# Altium footprint library 油烟采集模块.PcbLib: 18 footprints (part 1 of 2)
Each footprint in its own frame and in the unit in brackets; x right, y up, seen from the top. Pads: shape width x height; smd on the part's side, far side on the other; paste and mask are expansions set on the pad; w line width, h text height; cw(c..) or ccw(c..) is an arc to the next point about the centre after c.
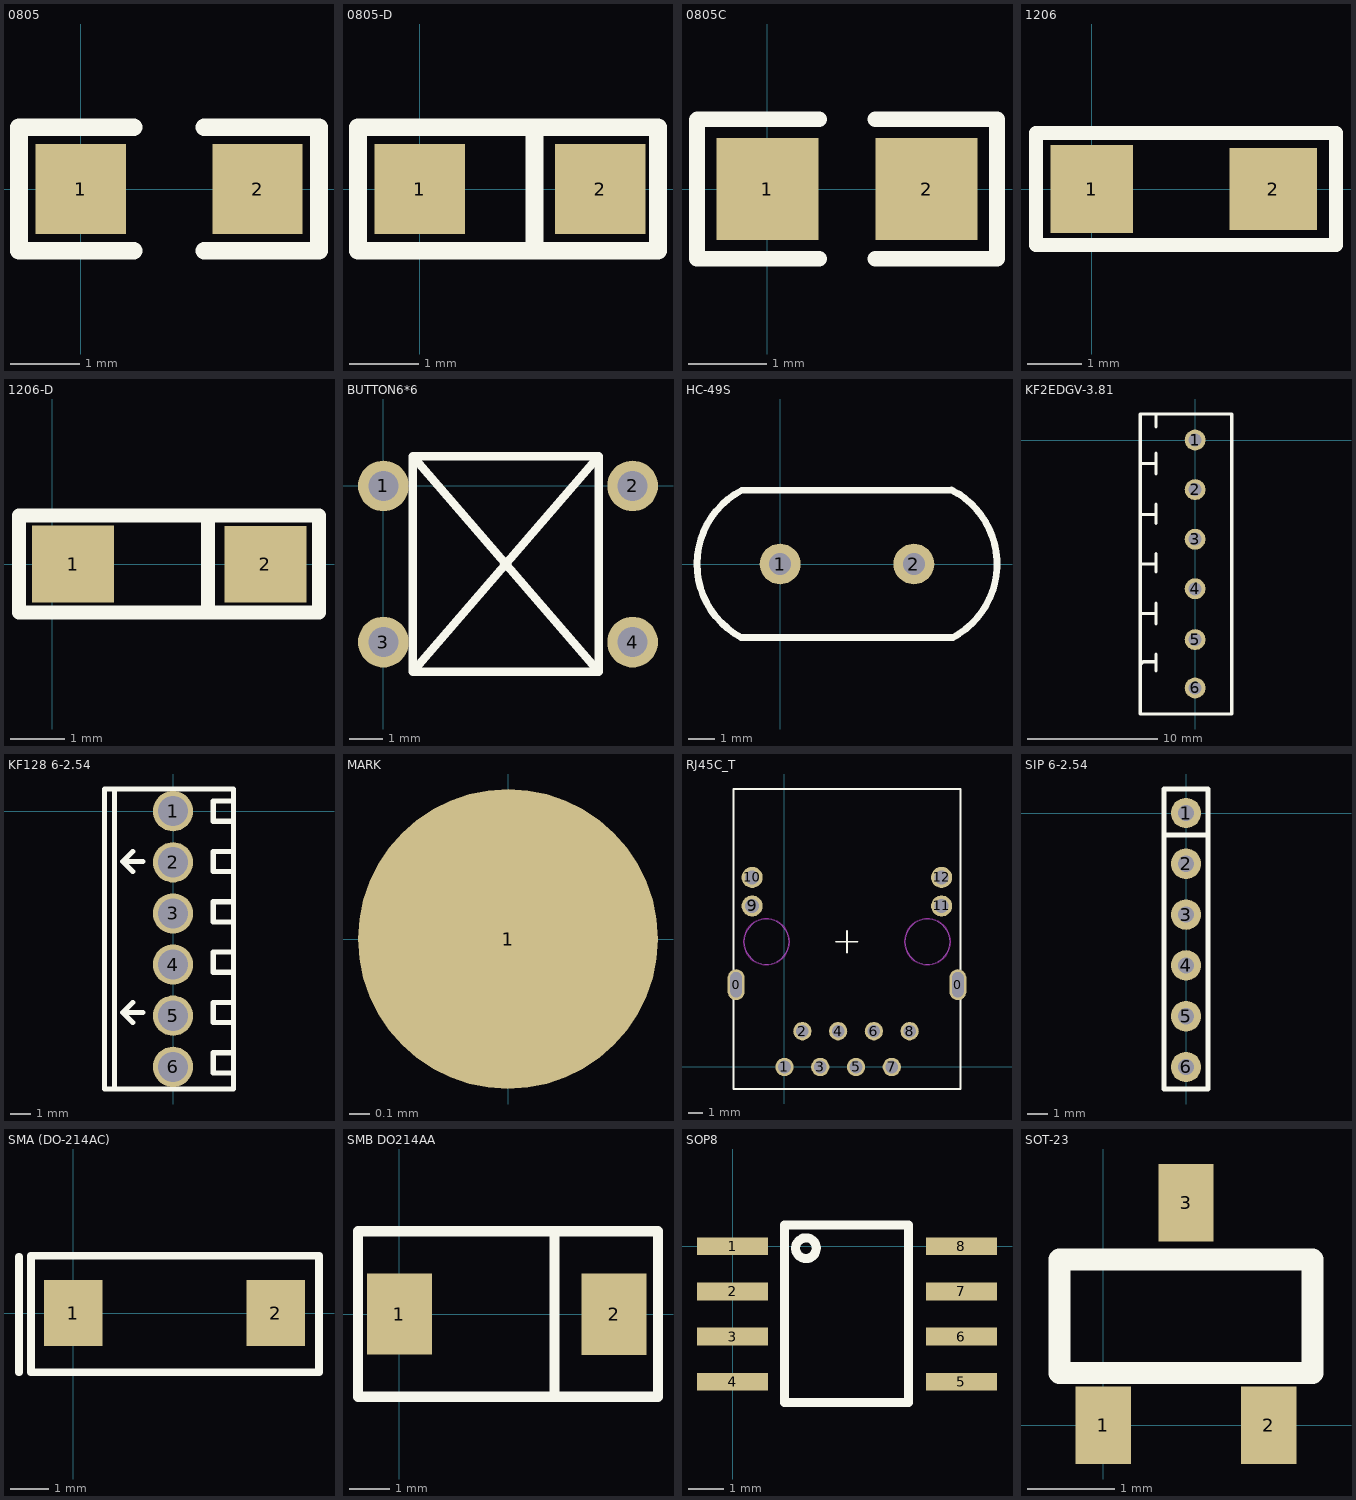
[diagram p0: the footprints below, top view; thin cyan lines are the x and y axes]

## 0805 [mm]
pads (2):
  rect 1.3x1.3 smd: 1(0,0) 2(2.545,0)
Top Overlay:
  lines w0.254: 0.762,-0.889 -0.889,-0.889 -0.889,0.889 0.762,0.889 ; 1.778,-0.889 3.429,-0.889 3.429,0.889 1.778,0.889

## 0805-D [mm]
pads (2):
  rect 1.3x1.3 smd: 1(0,0) 2(2.596,0)
Top Overlay:
  lines w0.254: 1.651,-0.889 1.651,0.889 ; -0.889,-0.889 -0.889,0.889 3.429,0.889 3.429,-0.889 -0.889,-0.889

## 0805C [mm] "0805无极性电容"
pads (2):
  rect 1.3x1.3 smd: 1(0,0) 2(2.027,0)
Top Overlay:
  lines w0.2: 0.66,-0.889 -0.896,-0.889 -0.896,0 -0.896,0.882 -0.889,0.889 0.66,0.889 ; 1.372,-0.889 2.923,-0.889 2.923,0.887 2.921,0.889 1.372,0.889

## 1206 [mm]
pads (2):
  rect 1.5x1.6 smd: 1(0,0)
  rect 1.6x1.5 smd: 2(3.302,0)
Top Overlay:
  lines w0.254: -1.016,-1.016 -1.016,1.016 4.445,1.016 4.445,-1.016 -1.016,-1.016

## 1206-D [mm]
pads (2):
  rect 1.5x1.4 smd: 1(0.381,0) 2(3.896,-0.001)
Top Overlay:
  lines w0.254: 2.845,-0.889 2.845,0.889 ; -0.61,-0.889 -0.61,0.889 4.877,0.889 4.877,-0.889 -0.61,-0.889

## BUTTON6*6 [mm]
pads (4):
  round 1.524 hole 0.9: 1(0,0) 2(7.5,0) 3(0,-4.7) 4(7.5,-4.7)
Top Overlay:
  lines w0.254: 0.889,0 0.889,0.889 ; 0.889,-5.588 6.477,0.889 ; 0.889,-5.588 6.477,-5.588 ; 0.889,-5.588 0.889,0.889 ; 0.889,0.889 6.477,-5.588 ; 0.889,0.889 6.477,0.889 ; 6.477,-5.588 6.477,0.889

## HC-49S [mil]
pads (2):
  round 60 hole 32: 1(0,0) 2(196.85,0)
Top Overlay:
  lines w10: 264.66,102.36 266.47,100.55 ; -57.34,-108.03 cw(c0,0) -56.42,108.51 251.71,108.51 252.24,109.04 cw(c196.85,0) 253.15,-108.57 252.6,-108.03 -57.34,-108.03

## KF2EDGV-3.81 [mm]
pads (6):
  round 1.6 hole 1: 1(0,0) 2(0,-3.8) 3(0,-7.6) 4(0,-11.4) 5(0,-15.3) 6(0,-19)
Top Overlay:
  lines w0.254: -4.2,-17.1 -4.1,-17.1 -4,-17 -3,-17 ; -4.2,-13.4 -4.1,-13.3 -3,-13.3 ; -4.2,-5.8 -4.1,-5.7 -3,-5.7 ; -4.2,-1.8 -3.1,-1.8 ; -4.1,-9.5 -3,-9.5 ; -3,-17.7 -3,-16.4 ; -3,-14.1 -3,-12.5 ; -3,-10.1 -3,-8.7 ; -3,-6.4 -3,-4.9 ; -3,-2.6 -3,-1 ; -3,1 -3,1.9 ; 0,-21 2.8,-21 2.8,2 0,2 -4.2,2 -4.2,-21 0.1,-21

## KF128 6-2.54 [mm]
pads (6):
  round 2 hole 1.5: 1(0,0) 2(0,-2.54) 3(0,-5.08) 4(0,-7.62) 5(0,-10.16) 6(0,-12.7)
Top Overlay:
  lines w0.254: -3.4,-0.4 -3.4,1.1 0.8,1.1 ; -3.4,0 -3.4,-13.8 0.1,-13.8 ; -2.9,-13.8 -2.9,1.1 ; -2,-10.5 -2.5,-10 ; -2,-3 -2.5,-2.5 ; -1.5,-10 -2.5,-10 ; -1.5,-2.5 -2.4,-2.5 -2.5,-2.5 ; 0,-13.8 3,-13.8 3,0 ; 0,1.1 3,1.1 3,-0.1 ; 2.9,0.5 2.1,0.5 2,0.5 2,-0.5 3,-0.5 ; 3,-13 2,-13 2,-12 3,-12 ; 3,-10.5 2,-10.5 2,-9.5 3,-9.5 ; 3,-8 2,-8 2,-7 3,-7 ; 3,-5.5 2,-5.5 2,-4.5 3,-4.5 ; 3,-3 2,-3 2,-2 3,-2 ; -2.5,-10 -2,-9.5 ; -2.5,-10 -2,-9.5 ; -2.5,-10 -2.5,-10 ; -2.5,-2.5 -2,-2 -2.5,-2.5 ; -2,-9.5 -2,-9.5

## MARK [mm] "mark点"
pads (1):
  round 1.5 smd mask+1: 1(0,0)

## RJ45C_T [mm]
pads (14):
  oval 1.2x2.2 hole 0.8 slot 1.8 at 90 deg: 0(-3.434,5.842) 0(12.316,5.842)
  round 1.3 hole 0.9: 1(0,0) 2(1.27,2.54) 3(2.54,0) 4(3.81,2.54) 5(5.08,0) 6(6.35,2.54) 7(7.62,0) 8(8.89,2.54)
  round 1.5 hole 1: 9(-2.291,11.43) 10(-2.291,13.46) 11(11.159,11.43) 12(11.159,13.46)
Top Overlay:
  lines w0.127: 3.658,8.89 5.207,8.89 ; 4.44,8.103 4.44,9.677 ; -3.608,-1.564 -3.608,19.736 12.492,19.736 12.492,-1.564 -3.608,-1.564
Keep-Out Layer:
  circle w0.076: c10.155,8.89 r1.65
  circle w0.076: c-1.275,8.89 r1.65
Mechanical 1:
  circle w0.076: c10.155,8.89 r1.6
  circle w0.076: c-1.275,8.89 r1.6

## SIP 6-2.54 [mil]
pads (6):
  round 60 hole 32: 1(0,0) 2(0,-100) 3(0,-200) 4(0,-300) 5(0,-400) 6(0,-500)
Top Overlay:
  lines w10: -43.31,-43.31 43.31,-43.31 ; 0,-543.31 -43.31,-543.31 ; -43.31,-543.31 -43.31,47.24 0,47.24 43.31,47.24 43.31,-543.31 -43.31,-543.31

## SMA (DO-214AC) [mm]
pads (2):
  rect 1.5x1.7 smd: 1(0,0) 2(5.213,0)
Top Overlay:
  lines w0.2: -1.397,-1.524 -1.397,1.448 ; -1.089,-1.524 6.327,-1.524 6.327,1.473 -1.089,1.473 -1.089,-0.054 -1.089,-1.524

## SMB DO214AA [mm]
pads (2):
  rect 1.6x2 smd: 1(0,0) 2(5.273,-0.003)
Top Overlay:
  lines w0.254: 3.81,-2.032 3.81,2.032 ; -1.016,-2.032 -1.016,0 -1.016,2.032 6.35,2.032 6.35,0 6.35,-2.032 -1.016,-2.032

## SOP8 [mm]
pads (8):
  rect 2x0.5 smd: 1(0,0) 2(0,-1.27) 3(0,-2.54) 4(0,-3.81) 5(6.45,-3.81) 6(6.45,-2.54) 7(6.45,-1.27) 8(6.45,0)
Top Overlay:
  circle w0.254: c2.068,-0.05 r0.292
  lines w0.254: 1.46,-4.4 4.96,-4.4 4.96,0.6 1.46,0.6 1.46,-4.4

## SOT-23 [mm]
pads (3):
  rect 0.635x0.889 smd: 1(0,0) 2(1.9,0) 3(0.95,2.55)
Top Overlay:
  lines w0.254: 0.95,1.9 -0.5,1.9 ; 1,1.9 -0.5,1.9 ; -0.5,1.9 2.4,1.9 2.4,0.6 -0.5,0.6 -0.5,1.9